# Altium schematic symbol library Capacitors.SchLib: 4 symbols
Pins are listed as number, name and electrical type; pins without a type are passive.

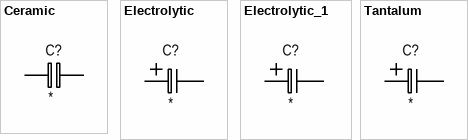
[diagram p0: symbols Ceramic to Tantalum]

## Ceramic
designator C?
Value: *
footprint CER-100UF
footprint AXIS-D7-L15-S19
footprint AXIS-D10-L15-S19
footprint FILM-W9-H8-G4-P7
footprint FILM-W7-H7-G3-P5
footprint Ceramic-1206
footprint BI-1uF
footprint BI-1uF - hor
pins: 1, 2

## Electrolytic
designator C?
Value: *; Case: *; HelpURL: *; Model: *; MAnufacture: *
footprint El-10uF
footprint EL-6_3D
footprint EL-6_3D - BOTTOM
footprint EL-4D
footprint EL-4D - BOTTOM
footprint El-D8-H11
footprint El-D10-H20
footprint TANT-D4-H10-P6
footprint El-D18-H40-HOR
footprint TAN-1UF
pins: 1, 2

## Electrolytic_1
designator C?
Value: *; Case: *; HelpURL: *; Model: *; MAnufacture: *
footprint El-10uF
footprint EL-6_3D
footprint EL-6_3D - BOTTOM
footprint EL-4D
footprint EL-4D - BOTTOM
footprint El-10uF-hor
footprint EL-5D
pins: 1, 2

## Tantalum
designator C?
Value: *; Case: *; HelpURL: *; Model: *; MAnufacture: *
footprint Tantalum-CaseD
pins: 1, 2